# EAGLE library part OPT3101RHFR (library OPT3101RHFR)
ToF-Based Long-Range Proximity and Distance Sensor Analog Front End (AFE) Source: Datasheet <http://www.ti.com/lit/gpn/opt3101>
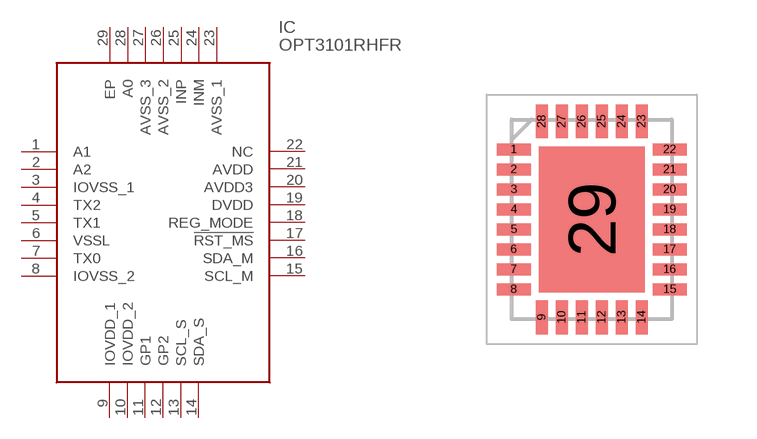
[diagram p0: symbol with the pads of QFN50P400X500X100-29N; footprint QFN50P400X500X100-29N]

Designator prefix IC

## OPT3101RHFR (Arrow_Part_Number: OPT3101RHFR; Arrow_Price-Stock: https://www.arrow.com/en/products/opt3101rhfr/texas-instruments?region=nac; Description: ToF-Based Long-Range Proximity and Distance Sensor Analog Front End (AFE); Height: 1mm; Manufacturer_Name: Texas Instruments; Manufacturer_Part_Number: OPT3101RHFR; Mouser_Part_Number: 595-OPT3101RHFR; Mouser_Price-Stock: https://www.mouser.co.uk/ProductDetail/Texas-Instruments/OPT3101RHFR?qs=gTYE2QTfZfTvqHztJ29%252Bbg%3D%3D)  [QFN50P400X500X100-29N]
1  A1
2  A2
3  IOVSS_1
4  TX2
5  TX1
6  VSSL
7  TX0
8  IOVSS_2
9  IOVDD_1
10  IOVDD_2
11  GP1
12  GP2
13  SCL_S
14  SDA_S
15  SCL_M
16  SDA_M
17  !RST_MS
18  REG_MODE
19  DVDD
20  AVDD3
21  AVDD
22  NC  nc
23  AVSS_1
24  INM
25  INP
26  AVSS_2
27  AVSS_3
28  A0
29  EP

## Footprint QFN50P400X500X100-29N (pad centres in mm)
RHF0028A
smd 0.85 x 0.3: 1 -1.95,1.75; 2 -1.95,1.25; 3 -1.95,0.75; 4 -1.95,0.25; 5 -1.95,-0.25; 6 -1.95,-0.75; 7 -1.95,-1.25; 8 -1.95,-1.75; 15 1.95,-1.75; 16 1.95,-1.25; 17 1.95,-0.75; 18 1.95,-0.25; 19 1.95,0.25; 20 1.95,0.75; 21 1.95,1.25; 22 1.95,1.75
smd 0.3 x 0.85: 9 -1.25,-2.45; 10 -0.75,-2.45; 11 -0.25,-2.45; 12 0.25,-2.45; 13 0.75,-2.45; 14 1.25,-2.45; 23 1.25,2.45; 24 0.75,2.45; 25 0.25,2.45; 26 -0.25,2.45; 27 -0.75,2.45; 28 -1.25,2.45
smd 2.65 x 3.65: 29 0,0